# EAGLE library part AVR_SPI_2X3 (library customheaders)
HARTING
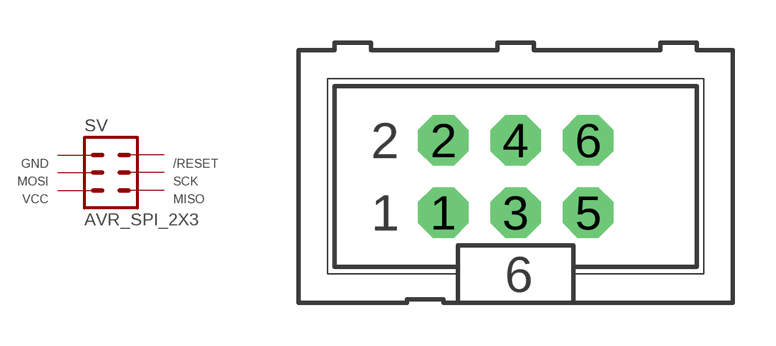
[diagram p2: symbol with the pads of AVR_SPI_2X3; footprint AVR_SPI_2X3]

Designator prefix SV

## AVR_SPI_2X3/OUT (OC_FARNELL: unknown; OC_NEWARK: unknown)  [AVR_SPI_2X3]
1  GND
2  /RESET
3  MOSI
4  SCK
5  VCC
6  MISO

## AVR_SPI_2X3/IN  [AVR_SPI_2X3]
1  MISO
2  VCC
3  SCK
4  MOSI
5  /RESET
6  GND

## Footprint AVR_SPI_2X3 (pad centres in mm)
HARTING
drill 1 pad 1.778 octagon: 1 -2.54,-1.27; 2 -2.54,1.27; 3 0,-1.27; 4 0,1.27; 5 2.54,-1.27; 6 2.54,1.27